# Altium integrated library Altium Database Library V2.IntLib: 722 symbols (part 23 of 35)

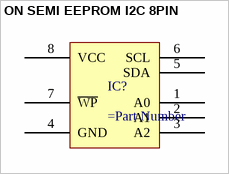
[diagram p434: symbol ON SEMI EEPROM I2C 8PIN]

## ON SEMI EEPROM I2C 8PIN
designator IC?
pins: 1 A0, 2 A1, 3 A2, 4 GND, 5 SDA, 6 SCL, 7 ~{WP}, 8 VCC


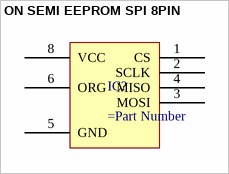
[diagram p435: symbol ON SEMI EEPROM SPI 8PIN]

## ON SEMI EEPROM SPI 8PIN
designator IC?
pins: 1 CS, 2 SCLK, 3 MOSI, 4 MISO, 5 GND, 6 ORG, 8 VCC


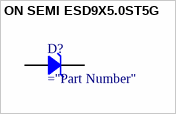
[diagram p436: symbol ON SEMI ESD9X5.0ST5G]

## ON SEMI ESD9X5.0ST5G
designator D?
Rectifier Diode
pins: 1 A, 2 K


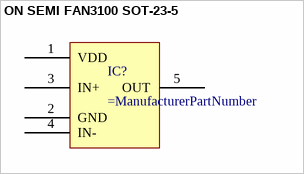
[diagram p437: symbol ON SEMI FAN3100 SOT-23-5]

## ON SEMI FAN3100 SOT-23-5
designator IC?
pins: 1 VDD, 2 GND, 3 IN+, 4 IN-, 5 OUT


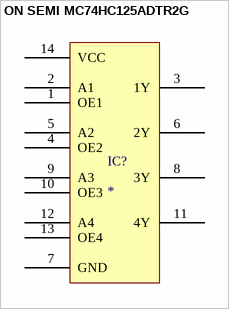
[diagram p438: symbol ON SEMI MC74HC125ADTR2G]

## ON SEMI MC74HC125ADTR2G
designator IC?
pins: 1 OE1, 2 A1, 3 1Y, 4 OE2, 5 A2, 6 2Y, 7 GND, 8 3Y, 9 A3, 10 OE3, 11 4Y, 12 A4, 13 OE4, 14 VCC


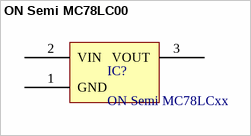
[diagram p439: symbol ON Semi MC78LC00]

## ON Semi MC78LC00
designator IC?, comment ON Semi MC78LCxx
Micropower Voltage  Regulator
pins: 1 GND, 2 VIN, 3 VOUT


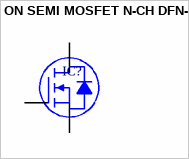
[diagram p440: symbol ON SEMI MOSFET N-CH DFN-5]

## ON SEMI MOSFET N-CH DFN-5
designator IC?
pins: D, G, S


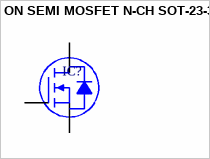
[diagram p441: symbol ON SEMI MOSFET N-CH SOT-23-3]

## ON SEMI MOSFET N-CH SOT-23-3
designator IC?
pins: 1 G, 2 S, 3 D


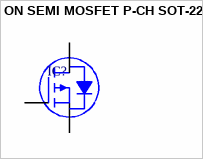
[diagram p442: symbol ON SEMI MOSFET P-CH SOT-223]

## ON SEMI MOSFET P-CH SOT-223
designator IC?
pins: 1 G, 2 D, 3 S, 4 D


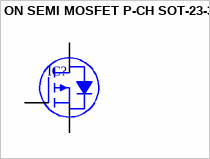
[diagram p443: symbol ON SEMI MOSFET P-CH SOT-23-3]

## ON SEMI MOSFET P-CH SOT-23-3
designator IC?
pins: 1 G, 2 S, 3 D


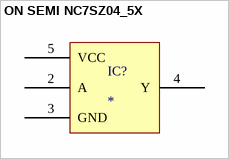
[diagram p444: symbol ON SEMI NC7SZ04_5X]

## ON SEMI NC7SZ04_5X
designator IC?
pins: 2 A, 3 GND, 4 Y, 5 VCC


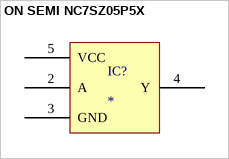
[diagram p445: symbol ON SEMI NC7SZ05P5X]

## ON SEMI NC7SZ05P5X
designator IC?
pins: 2 A, 3 GND, 4 Y, 5 VCC


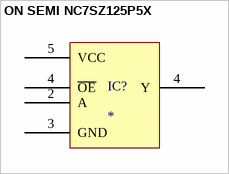
[diagram p446: symbol ON SEMI NC7SZ125P5X]

## ON SEMI NC7SZ125P5X
designator IC?
pins: 2 A, 3 GND, 4 Y, 4 ~{OE}, 5 VCC


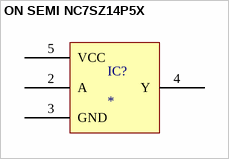
[diagram p447: symbol ON SEMI NC7SZ14P5X]

## ON SEMI NC7SZ14P5X
designator IC?
pins: 2 A, 3 GND, 4 Y, 5 VCC


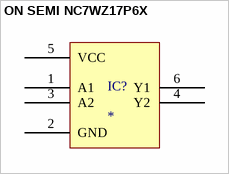
[diagram p448: symbol ON SEMI NC7WZ17P6X]

## ON SEMI NC7WZ17P6X
designator IC?
pins: 1 A1, 2 GND, 3 A2, 4 Y2, 5 VCC, 6 Y1


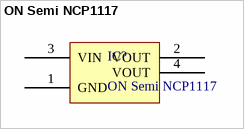
[diagram p449: symbol ON Semi NCP1117]

## ON Semi NCP1117
designator IC?
1.0A Low-Dropout Positive Fixed and Adjustable Voltage Regulators
pins: 1 GND, 2 VOUT, 3 VIN, 4 VOUT


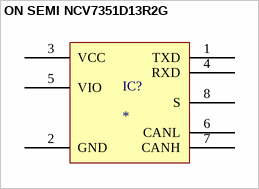
[diagram p450: symbol ON SEMI NCV7351D13R2G]

## ON SEMI NCV7351D13R2G
designator IC?
pins: 1 TXD, 2 GND, 3 VCC, 4 RXD, 5 VIO, 6 CANL, 7 CANH, 8 S


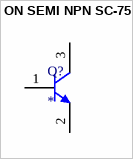
[diagram p451: symbol ON SEMI NPN SC-75]

## ON SEMI NPN SC-75
designator Q?
pins: 1 B, 2 E, 3 C


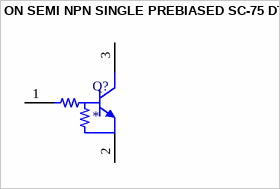
[diagram p452: symbol ON SEMI NPN SINGLE PREBIASED SC-75 DTC]

## ON SEMI NPN SINGLE PREBIASED SC-75 DTC
designator Q?
pins: 1 B, 2 E, 3 C


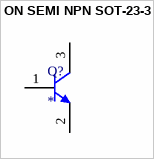
[diagram p453: symbol ON SEMI NPN SOT-23-3]

## ON SEMI NPN SOT-23-3
designator Q?
pins: 1 B, 2 E, 3 C


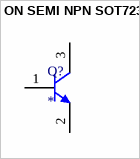
[diagram p454: symbol ON SEMI NPN SOT723]

## ON SEMI NPN SOT723
designator Q?
pins: 1 B, 2 E, 3 C


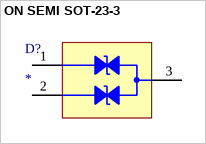
[diagram p455: symbol ON SEMI SOT-23-3]

## ON SEMI SOT-23-3
designator D?
TVS DIODE
pins: 1 I/O 1, 2 GND, 3 I/O 2


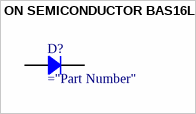
[diagram p456: symbol ON SEMICONDUCTOR BAS16LT1G]

## ON SEMICONDUCTOR BAS16LT1G
designator D?
Rectifier Diode
pins: 1, 3
